# Altium schematic symbol library Filters (SC).SchLib: 1 symbol
Pins are listed as number, name and electrical type; pins without a type are passive.

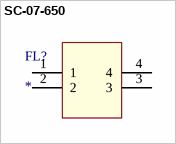
[diagram p0: symbol SC-07-650]

## SC-07-650
designator FL?
EMI Filter; Value: 6.5 mH; Max current: 7A; Temperature range: -55 to +105 °C
footprint SC-07-650
pins: 1, 2, 3, 4